# Altium schematic symbol library Con3x16.Schlib: 1 symbol
Pins are listed as number, name and electrical type; pins without a type are passive.

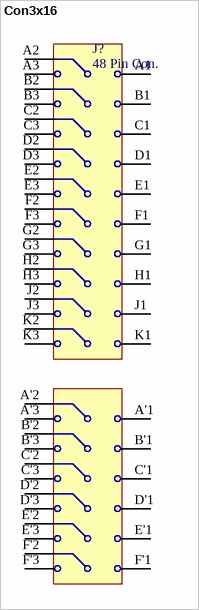
[diagram p0: symbol Con3x16]

## Con3x16
designator J?, comment 48 Pin Con.
48 Pin Connector, TH Rt angle, Sealed
pins: A1, A2, A3, A'1, A'2, A'3, B1, B2, B3, B'1, B'2, B'3, C1, C2, C3, C'1, C'2, C'3, D1, D2, D3, D'1, D'2, D'3, E1, E2, E3, E'1, E'2, E'3, F1, F2, F3, F'1, F'2, F'3, G1, G2, G3, H1, H2, H3, J1, J2, J3, K1, K2, K3